# EAGLE library part SA818 (library RadioChips)
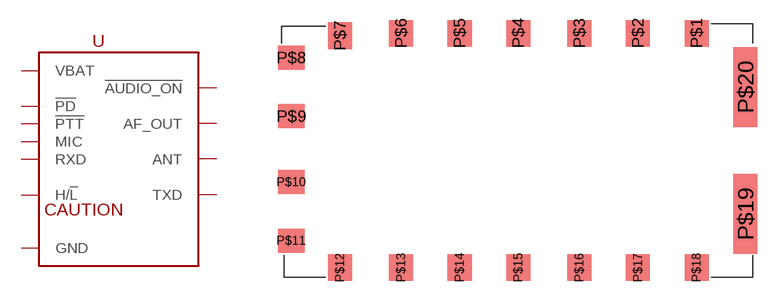
[diagram p1: symbol with the pads of SA818; footprint SA818]

Designator prefix -

## SA818  [SA818]
P$1  !AUDIO_ON  out
P$3  AF_OUT
P$5  !PTT  in
P$6  !PD  in
P$7  H/!L  in
P$8  VBAT  pwr
P$9  GND  pwr
P$10  GND  pwr
P$12  ANT
P$16  RXD  in
P$17  TXD
P$18  MIC  in

## Footprint SA818 (pad centres in mm)
smd 1.8 x 2: P$1 30.927,18.3; P$2 26.535,18.3; P$3 22.143,18.3; P$4 17.568,18.3; P$5 13.176,18.3; P$6 8.784,18.3; P$7 4.209,18.117; P$12 4.209,0.732; P$13 8.784,0.732; P$14 13.176,0.732; P$15 17.568,0.732; P$16 22.143,0.732; P$17 26.535,0.732; P$18 30.927,0.732
smd 2 x 1.8: P$8 0.549,16.47; P$9 0.549,12.078; P$10 0.549,7.137; P$11 0.549,2.745
smd 1.8 x 6: P$19 34.587,4.758; P$20 34.587,14.274